# EAGLE library part TI_CHGR_BQ21040 (library leaf)
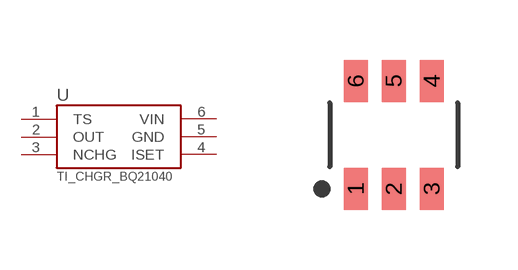
[diagram p16: symbol with the pads of SOT-23-6_TI; footprint SOT-23-6_TI]

Designator prefix U

## TI_CHGR_BQ21040  [SOT-23-6_TI]
1  TS
2  OUT
3  NCHG
4  ISET
5  GND
6  VIN

## Footprint SOT-23-6_TI (pad centres in mm)
smd 0.6 x 1.05: 1 -0.95,-1.35; 2 0,-1.35; 3 0.95,-1.35; 4 0.95,1.35; 5 0,1.35; 6 -0.95,1.35